# Altium schematic symbol library Generic_Comp_Sch.SchLib: 39 symbols
Pins are listed as number, name and electrical type; pins without a type are passive.

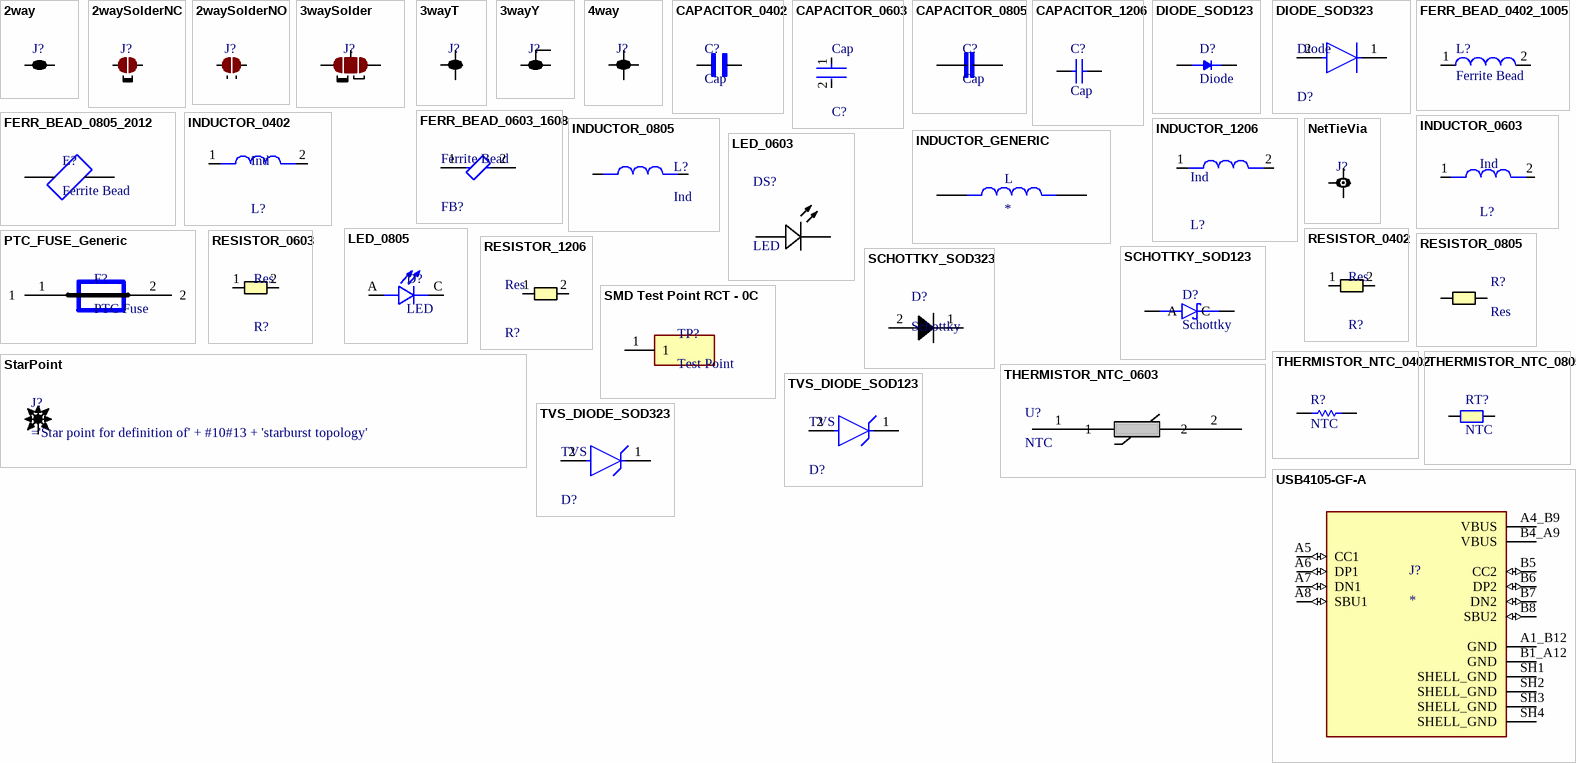
[diagram p0: symbols 2way to USB4105-GF-A]

## 2way
designator J?, comment 2 way net tie junction  (value not drawn)  (net tie, no BOM)
ComponentLink1URL: http://www.edatools.cz/addons; ComponentLink1Description: Source; FootprintNote: LP=12mil, MP=40mil, HP=120mil
footprint 2way_LP (2 way low power net tie junction)
footprint 2way_MP (2 way medium power net tie junction)
footprint 2way_HP (2 way high power power net tie junction)
pins: 1, 2

## 2waySolderNC
designator J?, comment 2 way net solder junction - Normally Connected  (value not drawn)  (no BOM)
ComponentLink1URL: http://www.edatools.cz/addons; ComponentLink1Description: Source
footprint 2waySolder_NC (2 way net solder junction - Normally Connected)
pins: 1, 2

## 2waySolderNO
designator J?, comment 2 way net solder junction - Normally Open  (value not drawn)  (no BOM)
ComponentLink1URL: http://www.edatools.cz/addons; ComponentLink1Description: Source
footprint 2waySolder_NO (2 way net solder junction - Normally Open)
pins: 1, 2

## 3waySolder
designator J?, comment 3 way net solder junction  (value not drawn)  (no BOM)
ComponentLink1URL: http://www.edatools.cz/addons; ComponentLink1Description: Source; FootprintNote: LP=12mil, MP=40mil, HP=120mil
footprint 3waySolder (3 way net solder junction)
pins: 1, 2, 3

## 3wayT
designator J?, comment 3 way net tie junction T shape  (value not drawn)  (net tie, no BOM)
Note: 2 display modes available; ComponentLink1URL: http://www.edatools.cz/addons; ComponentLink1Description: Source; FootprintNote: LP=12mil, MP=40mil, HP=120mil
footprint 3wayT_LP (3 way low power net tie T shape junction)
footprint 3wayT_MP (3 way medium power net tie T shape junction)
footprint 3wayT_HP (3 way high power power net tie T shape junction)
pins: 1, 2, 3

## 3wayY
designator J?, comment 3 way net tie junction Y shape  (value not drawn)  (net tie, no BOM)
ComponentLink1URL: http://www.edatools.cz/addons; ComponentLink1Description: Source; FootprintNote: LP=12mil, MP=40mil, HP=120mil
footprint 3wayY_LP (3 way low power net tie Y shape junction)
footprint 3wayY_MP (3 way medium power net tie Y shape junction)
footprint 3wayY_HP (3 way high power power net tie Y shape junction)
pins: 1, 2, 3
1 alternate drawing of the same symbol

## 4way
designator J?, comment 4 way net tie junction  (value not drawn)  (net tie, no BOM)
Note: 2 display modes available; ComponentLink1URL: http://www.edatools.cz/addons; ComponentLink1Description: Source; FootprintNote: LP=12mil, MP=40mil, HP=120mil
footprint 4way_LP (4 way low power net tie junction)
footprint 4way_MP (4 way medium power net tie junction)
footprint 4way_HP (4 way high power power net tie junction)
pins: 1, 2, 3, 4
1 alternate drawing of the same symbol

## CAPACITOR_0402
designator C?, comment Cap
Generic ceramic capacitor, 0402 / 1005; Package: 0402; Value: *; Manufacturer: *; Manufacturer Part Number: *
footprint FP-AC0402-IPC_B
pins: 1, 2

## CAPACITOR_0603
designator C?, comment Cap
Generic ceramic capacitor, 0603; Value: *; Package: 0603; Manufacturer: *; Manufacturer Part Number: *
footprint FP-CC0603-DA-MFG
pins: 1, 2

## CAPACITOR_0805
designator C?, comment Cap
Generic ceramic capacitor, 0805 / 2012; Manufacturer Part Number: *; Value: *; Package: 0805; Manufacturer: *
footprint CAPC2012X70
pins: 1, 2

## CAPACITOR_1206
designator C?, comment Cap
Generic ceramic capacitor, 1206; Value: *; Package: 1206; Manufacturer: *; Manufacturer Part Number: *
footprint CAPC1206(3216)100_N (Chip Capacitor, Body 3.2x1.6mm, Height 1mm, IPC Medium Density)
pins: 1, 2
1 alternate drawing of the same symbol

## DIODE_SOD123
designator D?, comment Diode
Generic diode, SOD-123; Manufacturer Part Number: *; Manufacturer: *; Package: SOD-123; Value: *
footprint SOD3715X135N
pins: A, C K

## DIODE_SOD323
designator D?, comment Diode
Generic diode, SOD-323; Value: *; Package: SOD323; Manufacturer: *; Manufacturer Part Number: *
footprint FP-SOD323-MFG
pins: 1 C, 2 A

## FERR_BEAD_0402_1005
designator L?, comment Ferrite Bead
Generic ferrite bead, 0402 / 1005; Value: *; Package: *; Manufacturer: *; Manufacturer Part Number: *
footprint SMD-0402 (Chip Inductor, 2-Leads, Body 1.0x0.5mm)
pins: 1, 2

## FERR_BEAD_0603_1608
designator FB?, comment Ferrite Bead
Generic ferrite bead, 0603 / 1608; Value: *; Package: 0603; Manufacturer: *; Manufacturer Part Number: *
footprint FP-MPZ1608-0_6-MFG
pins: 1, 2

## FERR_BEAD_0805_2012
designator E?, comment Ferrite Bead
Generic ferrite bead, 0805 / 2012 metric; Manufacturer: *; Package: 0805; Value: *; Manufacturer Part Number: *
footprint FB_MI0805K400R-10
pins: 1, 2

## INDUCTOR_0402
designator L?, comment Ind
Generic SMD inductor, 0402; Value: *; Package: 0402; Manufacturer: *; Manufacturer Part Number: *
footprint FP-AC0402-MFG
pins: 1, 2

## INDUCTOR_0603
designator L?, comment Ind
Generic SMD inductor, 0603; Value: *; Package: 0603; Manufacturer: *; Manufacturer Part Number: *
footprint FP-AC0603-MFG
pins: 1, 2

## INDUCTOR_0805
designator L?, comment Ind
Generic SMD inductor, 0805 / 2012 metric; Value: *; Manufacturer: *; Manufacturer Part Number: *; Package: 0805
footprint RESC2012X60N
pins: 1, 2

## INDUCTOR_1206
designator L?, comment Ind
Generic SMD inductor, 1206; Value: *; Package: 1206; Manufacturer: *; Manufacturer Part Number: *
footprint FP-AC1206-MFG
pins: 1, 2

## INDUCTOR_GENERIC
designator L
Value: *
pins: 1, 2

## LED_0603
designator DS?, comment LED
Generic indiciator LED, 0603; Value: *; Package: 0603; Manufacturer: *; Manufacturer Part Number: *
footprint LUMX-SML-LX0603_V (SMD, 2-Leads, Body 1.6x0.8mm)
pins: 1 A, 2 K

## LED_0805
designator D?, comment LED
Generic indicator LED, 0805 / 2012 metric; Package: 0805; Value: *; Manufacturer: *; Manufacturer Part Number: *
footprint LEDC2012X120N
pins: A, C

## NetTieVia
designator J?, comment Net Tie Via  (value not drawn)  (net tie, no BOM)
ComponentLink1URL: http://www.edatools.cz/addons; ComponentLink1Description: Source
footprint NetTieVia03 (Net Tie Via 0.3mm)
footprint NetTieVia06 (Net Tie Via 0.6mm)
footprint NetTieVia08 (Net Tie Via 0.8mm)
pins: 1, 2, 3

## PTC_FUSE_Generic
designator F?, comment PTC Fuse
Generic resettable PTC fuse; Value: *; Manufacturer: *; Manufacturer Part Number: *; Package: *
pins: 1, 2

## RESISTOR_0402
designator R?, comment Res
Generic SMD resistor, 0402; Value: *; Package: 0402; Manufacturer: *; Manufacturer Part Number: *
footprint FP-AC0402-MFG
pins: 1, 2

## RESISTOR_0603
designator R?, comment Res
Generic SMD resistor, 0603; Value: *; Package: 0603; Manufacturer: *; Manufacturer Part Number: *
footprint FP-AC0603-MFG
pins: 1, 2

## RESISTOR_0805
designator R?, comment Res
Generic SMD resistor, 0805 / 2012 metric; Value: *; Manufacturer: *; Manufacturer Part Number: *; Package: 0805
footprint RESC2012X60N
pins: 1, 2

## RESISTOR_1206
designator R?, comment Res
Generic SMD resistor, 1206; Value: *; Package: 1206; Manufacturer: *; Manufacturer Part Number: *
footprint FP-AC1206-MFG
pins: 1, 2

## SCHOTTKY_SOD123
designator D?, comment Schottky
Generic Schottky diode, SOD-123 package; Value: *; Manufacturer Part Number: *; Manufacturer: *; Package: SOD123
footprint SOD3716X135N
pins: A, C

## SCHOTTKY_SOD323
designator D?, comment Schottky
Generic Schottky diode, SOD-323 package; Value: *; Package: SOD323; Manufacturer: *; Manufacturer Part Number: *
footprint ONSC-SOD-323-2-477-02_V (SOD, 2-Leads, Body 1.7x1.25mm)
pins: 1 K, 2 A

## SMD Test Point RCT - 0C
designator TP?, comment Test Point
Natural PC Test Point - Plating Surface Mount Mounting Type; Manufacturer Part Number: RCT-0C
footprint TP+245X165
pins: 1

## StarPoint
designator J?  (no BOM)
Star point for definition of starburst topology; Note: Add routing topology rule in PCB to desired net; ComponentLink1URL: http://www.edatools.cz/addons; ComponentLink1Description: Source
footprint StarPoint (Star point for definition of starburst topology)
pins: 1

## THERMISTOR_NTC_0402
designator R?, comment NTC
Generic NTC thermistor, 0402; Value: *; Package: 0402; Manufacturer: *; Manufacturer Part Number: *
footprint RESC1005X40X25NL05T05 (Chip Resistor, 2-Leads, Body 1.00x0.50mm, IPC Medium Density)
pins: 1, 2
1 alternate drawing of the same symbol

## THERMISTOR_NTC_0603
designator U?, comment NTC
Generic NTC thermistor, 0603; Value: *; Package: 0603; Manufacturer: *; Manufacturer Part Number: *
pcb NTCS0603_VIS
footprint NTCS0603_VIS
pins: 1, 2

## THERMISTOR_NTC_0805
designator RT?, comment NTC
Generic SMD thermesistor, 0805 metric; Package: 0805
footprint RESC2012X60N
pins: 1, 2

## TVS_DIODE_SOD123
designator D?, comment TVS
Generic TVS diode, SOD-123 package; Value: *; Package: SOD123; Manufacturer: *; Manufacturer Part Number: *
footprint FP-SMF6_5A-MFG
pins: 1 C, 2 A

## TVS_DIODE_SOD323
designator D?, comment TVS
Generic TVS diode, SOD-323 package; Value: *; Package: SOD323; Manufacturer: *; Manufacturer Part Number: *
footprint FP-CDSOD323-TxxS-MFG
pins: 1 C, 2 A

## USB4105-GF-A
designator J?
MF: {'manufacturer': u'GCT'}; MP: USB4105-GF-A; Package: None; Price: None; Value: *; Availability: Unavailable
footprint GCT_USB4105-GF-A
pins: A1_B12 GND (power), A4_B9 VBUS (power), A5 CC1 (io), A6 DP1 (io), A7 DN1 (io), A8 SBU1 (io), B1_A12 GND (power), B4_A9 VBUS (power), B5 CC2 (io), B6 DP2 (io), B7 DN2 (io), B8 SBU2 (io), SH1 SHELL_GND (power), SH2 SHELL_GND (power), SH3 SHELL_GND (power), SH4 SHELL_GND (power)